# EAGLE library part CAPARRAY (library CA0612KRX7R7BB104)
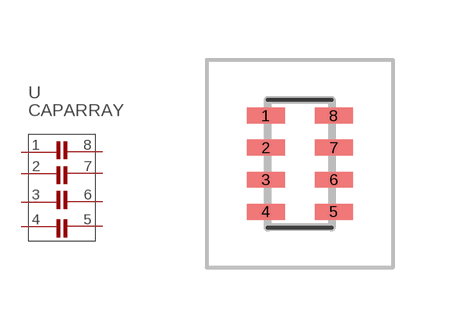
[diagram p1: symbol with the pads of CA0612KRX7R7BB104; footprint CA0612KRX7R7BB104]

Designator prefix -

## CAPARRAY  [CA0612KRX7R7BB104]
1  C10
2  C11
3  C12
4  C13
5  C14
6  C15
7  C16
8  C17

## Footprint CA0612KRX7R7BB104 (pad centres in mm)
CA0612KRX7R7BB104
smd 0.95 x 0.4: 1 -0.85,1.2; 2 -0.85,0.4; 3 -0.85,-0.4; 4 -0.85,-1.2; 5 0.85,-1.2; 6 0.85,-0.4; 7 0.85,0.4; 8 0.85,1.2